# Altium schematic symbol library C723484.SchLib: 1 symbol
Pins are listed as number, name and electrical type; pins without a type are passive.

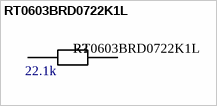
[diagram p0: symbol RT0603BRD0722K1L]

## RT0603BRD0722K1L
designator R?  value 22.1k
22.1kÎ© 100mW 75V Thin Film Resistor Â±25ppm/â„ƒ Â±0.1% 0603 Chip Resistor - Surface Mount RoHS; Name: C723484; Source: LCSC
footprint R0603 (6.8k? ±5% 100mW 0603 Thick Film Resistor AEC-Q200)
pins: 1, 2